# EAGLE library part REEF_PERIPHERAL (library jt-con-pcie)
Reef controller bus
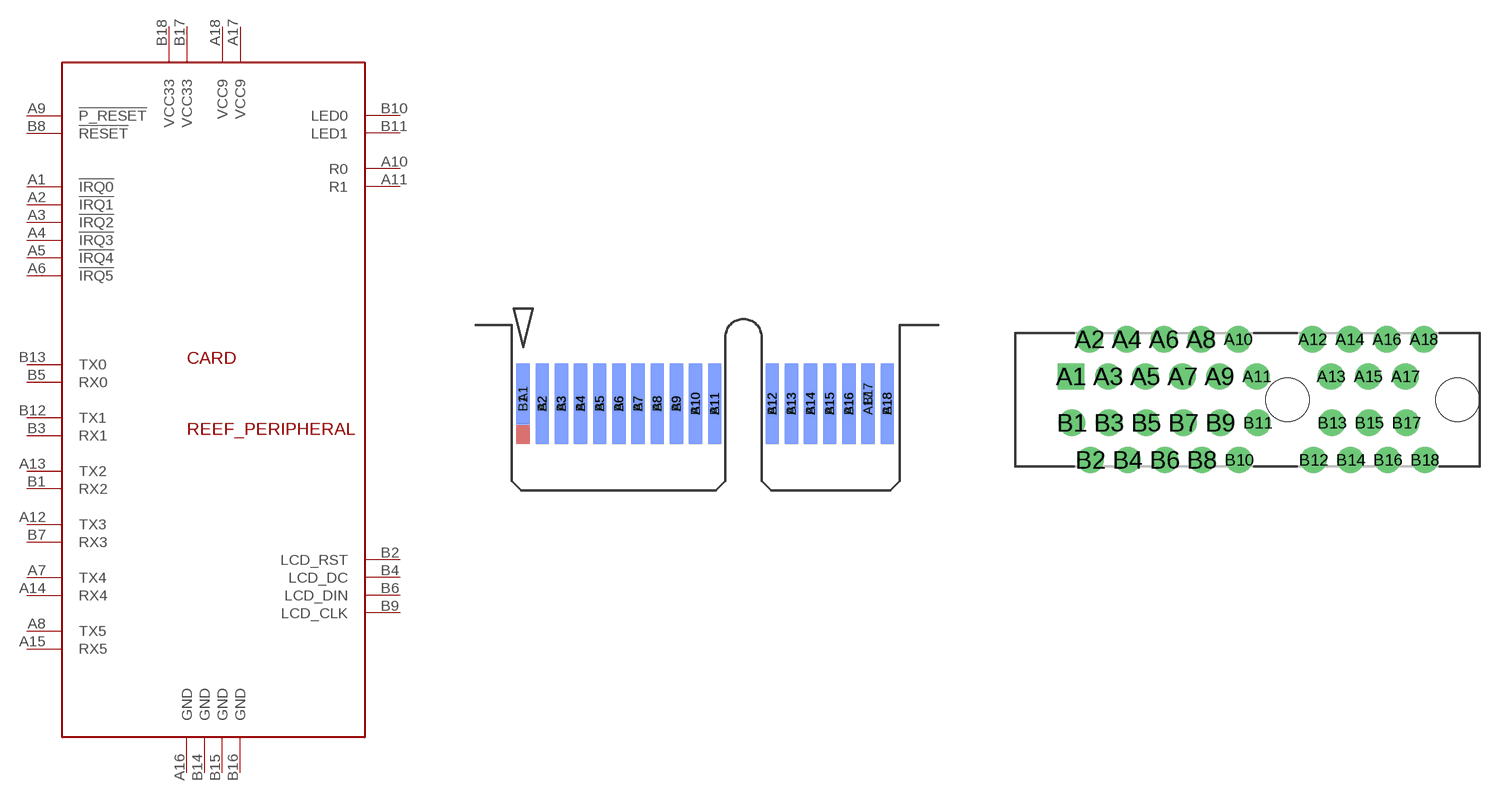
[diagram p1: symbol with the pads of PCIE-36-EDGE; footprints PCIE-36-EDGE, PCIE-36-SKT]

Designator prefix CARD

## REEF_PERIPHERALCARD  [PCIE-36-EDGE]
A1  !IRQ0!
A2  !IRQ1!
A3  !IRQ2!
A4  !IRQ3!
A5  !IRQ4!
A6  !IRQ5!
A7  TX4
A8  TX5
A9  !P_RESET!
A10  R0
A11  R1
A12  TX3
A13  TX2
A14  RX4
A15  RX5
A16  GND
A17  VCC9
A18  VCC9
B1  RX2
B2  LCD_RST
B3  RX1
B4  LCD_DC
B5  RX0
B6  LCD_DIN
B7  RX3
B8  !RESET!
B9  LCD_CLK
B10  LED0
B11  LED1
B12  TX1
B13  TX0
B14  GND
B15  GND
B16  GND
B17  VCC33
B18  VCC33

## REEF_PERIPHERALBACKPLANE  [PCIE-36-SKT]
Pads as for PCIE-36-EDGE

## Footprint PCIE-36-EDGE (pad centres in mm)
PCI-E 36-way edge connector
smd 0.7 x 3.2 bottom: A1 -11.5,-3.6
smd 0.7 x 4.2 bottom: A2 -10.5,-4.1; A3 -9.5,-4.1; A4 -8.5,-4.1; A5 -7.5,-4.1; A6 -6.5,-4.1; A7 -5.5,-4.1; A8 -4.5,-4.1; A9 -3.5,-4.1; A10 -2.5,-4.1; A11 -1.5,-4.1; A12 1.5,-4.1; A13 2.5,-4.1; A14 3.5,-4.1; A15 4.5,-4.1; A16 5.5,-4.1; A17 6.5,-4.1; A18 7.5,-4.1
smd 0.7 x 4.2: B1 -11.5,-4.1; B2 -10.5,-4.1; B3 -9.5,-4.1; B4 -8.5,-4.1; B5 -7.5,-4.1; B6 -6.5,-4.1; B7 -5.5,-4.1; B8 -4.5,-4.1; B9 -3.5,-4.1; B10 -2.5,-4.1; B11 -1.5,-4.1; B12 1.5,-4.1; B13 2.5,-4.1; B14 3.5,-4.1; B15 4.5,-4.1; B16 5.5,-4.1; B18 7.5,-4.1
smd 0.7 x 3.2: B17 6.5,-3.6

## Footprint PCIE-36-SKT (pad centres in mm)
PCIE-36 way socket
drill 0.7 pad 1.422 square: A1 -11.65,1.25
drill 0.7 pad 1.422: A2 -10.65,3.25; A3 -9.65,1.25; A4 -8.65,3.25; A5 -7.65,1.25; A6 -6.65,3.25; A7 -5.65,1.25; A8 -4.65,3.25; A9 -3.65,1.25; A10 -2.65,3.25; A11 -1.65,1.25; A12 1.35,3.25; A13 2.35,1.25; A14 3.35,3.25; A15 4.35,1.25; A16 5.35,3.25; A17 6.35,1.25; A18 7.35,3.25; B1 -11.6,-1.25; B2 -10.6,-3.25; B3 -9.6,-1.25; B4 -8.6,-3.25; B5 -7.6,-1.25; B6 -6.6,-3.25; B7 -5.6,-1.25; B8 -4.6,-3.25; B9 -3.6,-1.25; B10 -2.6,-3.25; B11 -1.6,-1.25; B12 1.4,-3.25; B13 2.4,-1.25; B14 3.4,-3.25; B15 4.4,-1.25; B16 5.4,-3.25; B17 6.4,-1.25; B18 7.4,-3.25
hole 2.35 at 0,0
hole 2.35 at 9.15,0